# Altium integrated library WE-SL5.IntLib: 9 symbols
Pins are listed as number, name and electrical type; pins without a type are passive.

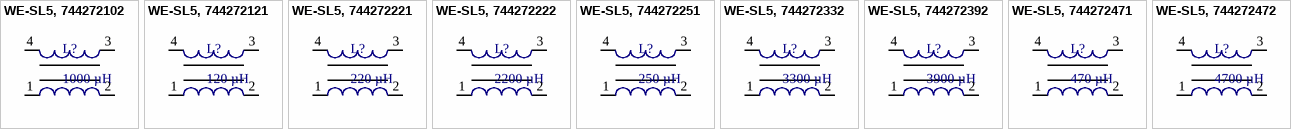
[diagram p0: symbols WE-SL5, 744272102 to WE-SL5, 744272472]

## WE-SL5, 744272102
designator L?, comment 1000 µH
SMD Common Mode Line Filter WE-SL5, L=1000 µH; partNo: 744272102; Manufacturer: Würth Elektronik eiSos GmbH; Inductance: 1000 µH; ComponentLink1Description: Manufacturer; ComponentLink1URL: http://www.we-online.de; Created by: Christin Zierenner; Created Date: November 2009; ComponentLink2Description: Datasheet; ComponentLink2URL: http://www.we-online.de/katalog/media/pdf/744272102.pdf
footprint WE-SL5 (SMD Inductor, Body 9,0x10,3mm)
pins: 1, 2, 3, 4

## WE-SL5, 744272121
designator L?, comment 120 µH
SMD Common Mode Line Filter WE-SL5, L=120 µH; partNo: 744272121; Manufacturer: Würth Elektronik eiSos GmbH; Inductance: 120 µH; ComponentLink1Description: Manufacturer; ComponentLink1URL: http://www.we-online.de; Created by: Christin Zierenner; Created Date: November 2009; ComponentLink2Description: Datasheet; ComponentLink2URL: http://www.we-online.de/katalog/media/pdf/744272121.pdf
footprint WE-SL5 (SMD Inductor, Body 9,0x10,3mm)
pins: 1, 2, 3, 4

## WE-SL5, 744272221
designator L?, comment 220 µH
SMD Common Mode Line Filter WE-SL5, L=220 µH; partNo: 744272221; Manufacturer: Würth Elektronik eiSos GmbH; Inductance: 220 µH; ComponentLink1Description: Manufacturer; ComponentLink1URL: http://www.we-online.de; Created by: Christin Zierenner; Created Date: November 2009; ComponentLink2Description: Datasheet; ComponentLink2URL: http://www.we-online.de/katalog/media/pdf/744272221.pdf
footprint WE-SL5 (SMD Inductor, Body 9,0x10,3mm)
pins: 1, 2, 3, 4

## WE-SL5, 744272222
designator L?, comment 2200 µH
SMD Common Mode Line Filter WE-SL5, L=2200 µH; partNo: 744272222; Manufacturer: Würth Elektronik eiSos GmbH; Inductance: 2200 µH; ComponentLink1Description: Manufacturer; ComponentLink1URL: http://www.we-online.de; Created by: Christin Zierenner; Created Date: November 2009; ComponentLink2Description: Datasheet; ComponentLink2URL: http://www.we-online.de/katalog/media/pdf/744272222.pdf
footprint WE-SL5 (SMD Inductor, Body 9,0x10,3mm)
pins: 1, 2, 3, 4

## WE-SL5, 744272251
designator L?, comment 250 µH
SMD Common Mode Line Filter WE-SL5, L=250 µH; partNo: 744272251; Manufacturer: Würth Elektronik eiSos GmbH; Inductance: 250 µH; ComponentLink1Description: Manufacturer; ComponentLink1URL: http://www.we-online.de; Created by: Christin Zierenner; Created Date: November 2009; ComponentLink2Description: Datasheet; ComponentLink2URL: http://www.we-online.de/katalog/media/pdf/744272251.pdf
footprint WE-SL5 (SMD Inductor, Body 9,0x10,3mm)
pins: 1, 2, 3, 4

## WE-SL5, 744272332
designator L?, comment 3300 µH
SMD Common Mode Line Filter WE-SL5, L=3300 µH; partNo: 744272332; Manufacturer: Würth Elektronik eiSos GmbH; Inductance: 3300 µH; ComponentLink1Description: Manufacturer; ComponentLink1URL: http://www.we-online.de; Created by: Christin Zierenner; Created Date: November 2009; ComponentLink2Description: Datasheet; ComponentLink2URL: http://www.we-online.de/katalog/media/pdf/744272332.pdf
footprint WE-SL5 (SMD Inductor, Body 9,0x10,3mm)
pins: 1, 2, 3, 4

## WE-SL5, 744272392
designator L?, comment 3900 µH
SMD Common Mode Line Filter WE-SL5, L=3900 µH; partNo: 744272392; Manufacturer: Würth Elektronik eiSos GmbH; Inductance: 3900 µH; ComponentLink1Description: Manufacturer; ComponentLink1URL: http://www.we-online.de; Created by: Christin Zierenner; Created Date: November 2009; ComponentLink2Description: Datasheet; ComponentLink2URL: http://www.we-online.de/katalog/media/pdf/744272392.pdf
footprint WE-SL5 (SMD Inductor, Body 9,0x10,3mm)
pins: 1, 2, 3, 4

## WE-SL5, 744272471
designator L?, comment 470 µH
SMD Common Mode Line Filter WE-SL5, L=470 µH; partNo: 744272471; Manufacturer: Würth Elektronik eiSos GmbH; Inductance: 470 µH; ComponentLink1Description: Manufacturer; ComponentLink1URL: http://www.we-online.de; Created by: Christin Zierenner; Created Date: November 2009; ComponentLink2Description: Datasheet; ComponentLink2URL: http://www.we-online.de/katalog/media/pdf/744272471.pdf
footprint WE-SL5 (SMD Inductor, Body 9,0x10,3mm)
pins: 1, 2, 3, 4

## WE-SL5, 744272472
designator L?, comment 4700 µH
SMD Common Mode Line Filter WE-SL5, L=4700 µH; partNo: 744272472; Manufacturer: Würth Elektronik eiSos GmbH; Inductance: 4700 µH; ComponentLink1Description: Manufacturer; ComponentLink1URL: http://www.we-online.de; Created by: Christin Zierenner; Created Date: November 2009; ComponentLink2Description: Datasheet; ComponentLink2URL: http://www.we-online.de/katalog/media/pdf/744272472.pdf
footprint WE-SL5 (SMD Inductor, Body 9,0x10,3mm)
pins: 1, 2, 3, 4